# Altium footprint library SOT23 Pad Lib.PcbLib: 3 footprints
Each footprint in its own frame and in the unit in brackets; x right, y up, seen from the top. Pads: shape width x height; smd on the part's side, far side on the other; paste and mask are expansions set on the pad; w line width, h text height; cw(c..) or ccw(c..) is an arc to the next point about the centre after c.
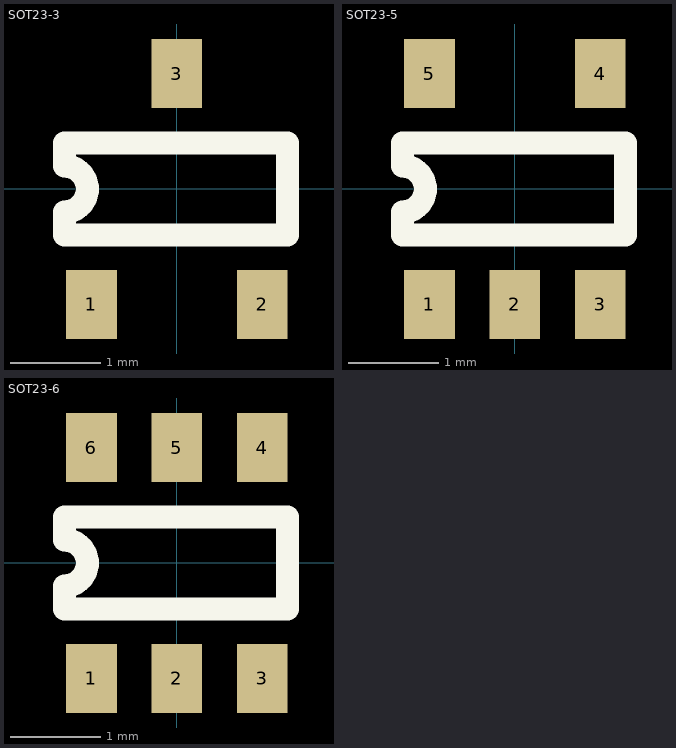
[diagram p0: the footprints below, top view; thin cyan lines are the x and y axes]

## SOT23-3 [mil] "SOT23-3"
pads (3):
  rect 22x30 smd: 1(-37,-50) 2(37,-50) 3(0,50)
Top Overlay:
  lines w10: -48.75,-20 -48.75,-10 ccw(c-48.75,0) -48.75,10 -48.75,20 48,20 48,-20 -48.75,-20
3D body: height 171, standoff -22, extent 48,0 48,0
3D body: height 171, standoff -22, extent 48,0 48,0
3D body "SOT23-3.step": height 51.18, standoff 0, extent -57.08,-55.11 57.09,55.12

## SOT23-5 [mil] "SOT23-5"
pads (5):
  rect 22x30 smd: 1(-37,-50) 2(0,-50) 3(37,-50) 4(37,50) 5(-37,50)
Top Overlay:
  lines w10: -48.75,-20 -48.75,-10 ccw(c-48.75,0) -48.75,10 -48.75,20 48,20 48,-20 -48.75,-20
3D body: height 171, standoff -22, extent 48,0 48,0
3D body: height 171, standoff -22, extent 48,0 48,0
3D body "SOT23-5.step": height 57.09, standoff 0, extent -57.08,-55.11 57.09,55.12

## SOT23-6 [mil] "SOT23-6"
pads (6):
  rect 22x30 smd: 1(-37,-50) 2(0,-50) 3(37,-50) 4(37,50) 5(0,50) 6(-37,50)
Top Overlay:
  lines w10: -48.75,-20 -48.75,-10 ccw(c-48.75,0) -48.75,10 -48.75,20 48,20 48,-20 -48.75,-20
3D body: height 171, standoff -22, extent 48,0 48,0
3D body: height 171, standoff -22, extent 48,0 48,0
3D body "SOT23-6.step": height 57.09, standoff 0, extent -57.08,-55.11 57.09,55.12